# Altium footprint library TE_ROX1S.PcbLib: 1 footprints
Each footprint in its own frame and in the unit in brackets; x right, y up, seen from the top. Pads: shape width x height; smd on the part's side, far side on the other; paste and mask are expansions set on the pad; w line width, h text height; cw(c..) or ccw(c..) is an arc to the next point about the centre after c.
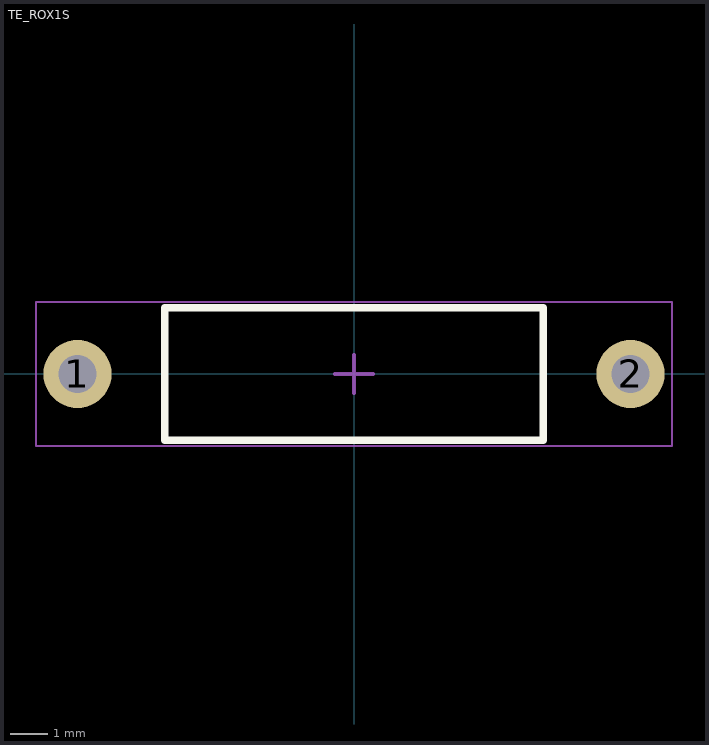
[diagram p0: the footprint, top view; thin cyan lines are the x and y axes]

## TE_ROX1S [mm] "TE_ROX1S"
pads (2):
  round 1.8 hole 1 mask+0.05: 1(-7.3,0) 2(7.3,0)
Top Overlay:
  lines w0.2: -5,-1.75 -5,1.75 5,1.75 5,-1.75 -5,-1.75
Mechanical 13:
  lines w0.1: -5,-1.75 -5,1.75 5,1.75 5,-1.75 -5,-1.75
Mechanical 15:
  lines w0.05: -8.4,-1.9 -8.4,1.9 8.4,1.9 8.4,-1.9 -8.4,-1.9
  lines w0.1: -0.5,0 0.5,0 ; 0,-0.5 0,0.5
3D body "TE_ROX1S.step": height 3, standoff -2.54, extent -7.681,-1.488 7.681,1.488